# Altium schematic symbol library VBlib_Relays.SchLib: 5 symbols
Pins are listed as number, name and electrical type; pins without a type are passive.

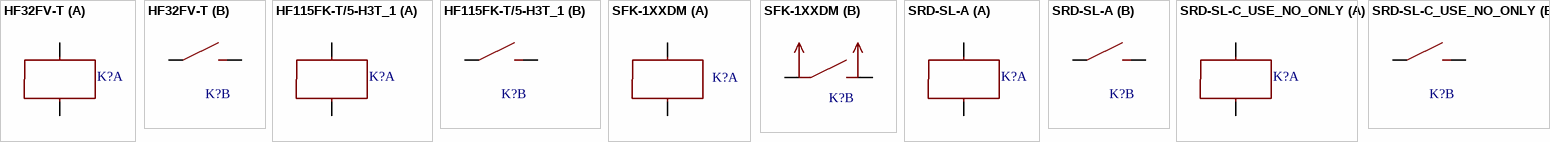
[diagram p0: symbols HF32FV-T to SRD-SL-C_USE_NO_ONLY]

## HF32FV-T
designator K?  (value not drawn)
RELAY, Power, 10A, 5VDC (HONGFA RELAY)
footprint HF32FV-T (Power Relay 10A)
part A pins: 1, 2
part B pins: 3, 4

## HF115FK-T/5-H3T_1
designator K?, comment HF115FK-T/5-H3T  (value not drawn)
RELAY, Power, 16A, 5VDC (HONGFA RELAY)
footprint HF115FK-2Z-T Series (RELAY HF115FK-T Series (HONGFA RELAY))
footprint HF115FK-2H-T Series (RELAY HF115FK-T Series (HONGFA RELAY))
part A pins: 1, 2
part B pins: 4, 5

## SFK-1XXDM
designator K?, comment SFK-105DM  (value not drawn)
RELAY, Power, 20A, 5VDC (SANYOU RELAYS)
footprint SFK-1XXDM
part A pins: 1, 2
part B pins: 3, 4

## SRD-SL-A
designator K?, comment SRD-5VDC-SL-A  (value not drawn)
RELAY, Power, 10A, 5VDC
footprint SRD-SL-A (Power Relay 15A)
footprint SRD-SL-C (Power Relay 15A)
part A pins: 4, 5
part B pins: 1, 2

## SRD-SL-C_USE_NO_ONLY
designator K?, comment SRD-5VDC-SL-A (SRD-5VDC-SL-С)  (value not drawn)
RELAY, Power, 10A, 5VDC
footprint SRD-SL-C (Power Relay 15A)
part A pins: 4, 5
part B pins: 1, 2